# Altium footprint library Motion Controller.PcbLib: 208 footprints (part 10 of 13)
Each footprint in its own frame and in the unit in brackets; x right, y up, seen from the top. Pads: shape width x height; smd on the part's side, far side on the other; paste and mask are expansions set on the pad; w line width, h text height; cw(c..) or ccw(c..) is an arc to the next point about the centre after c.
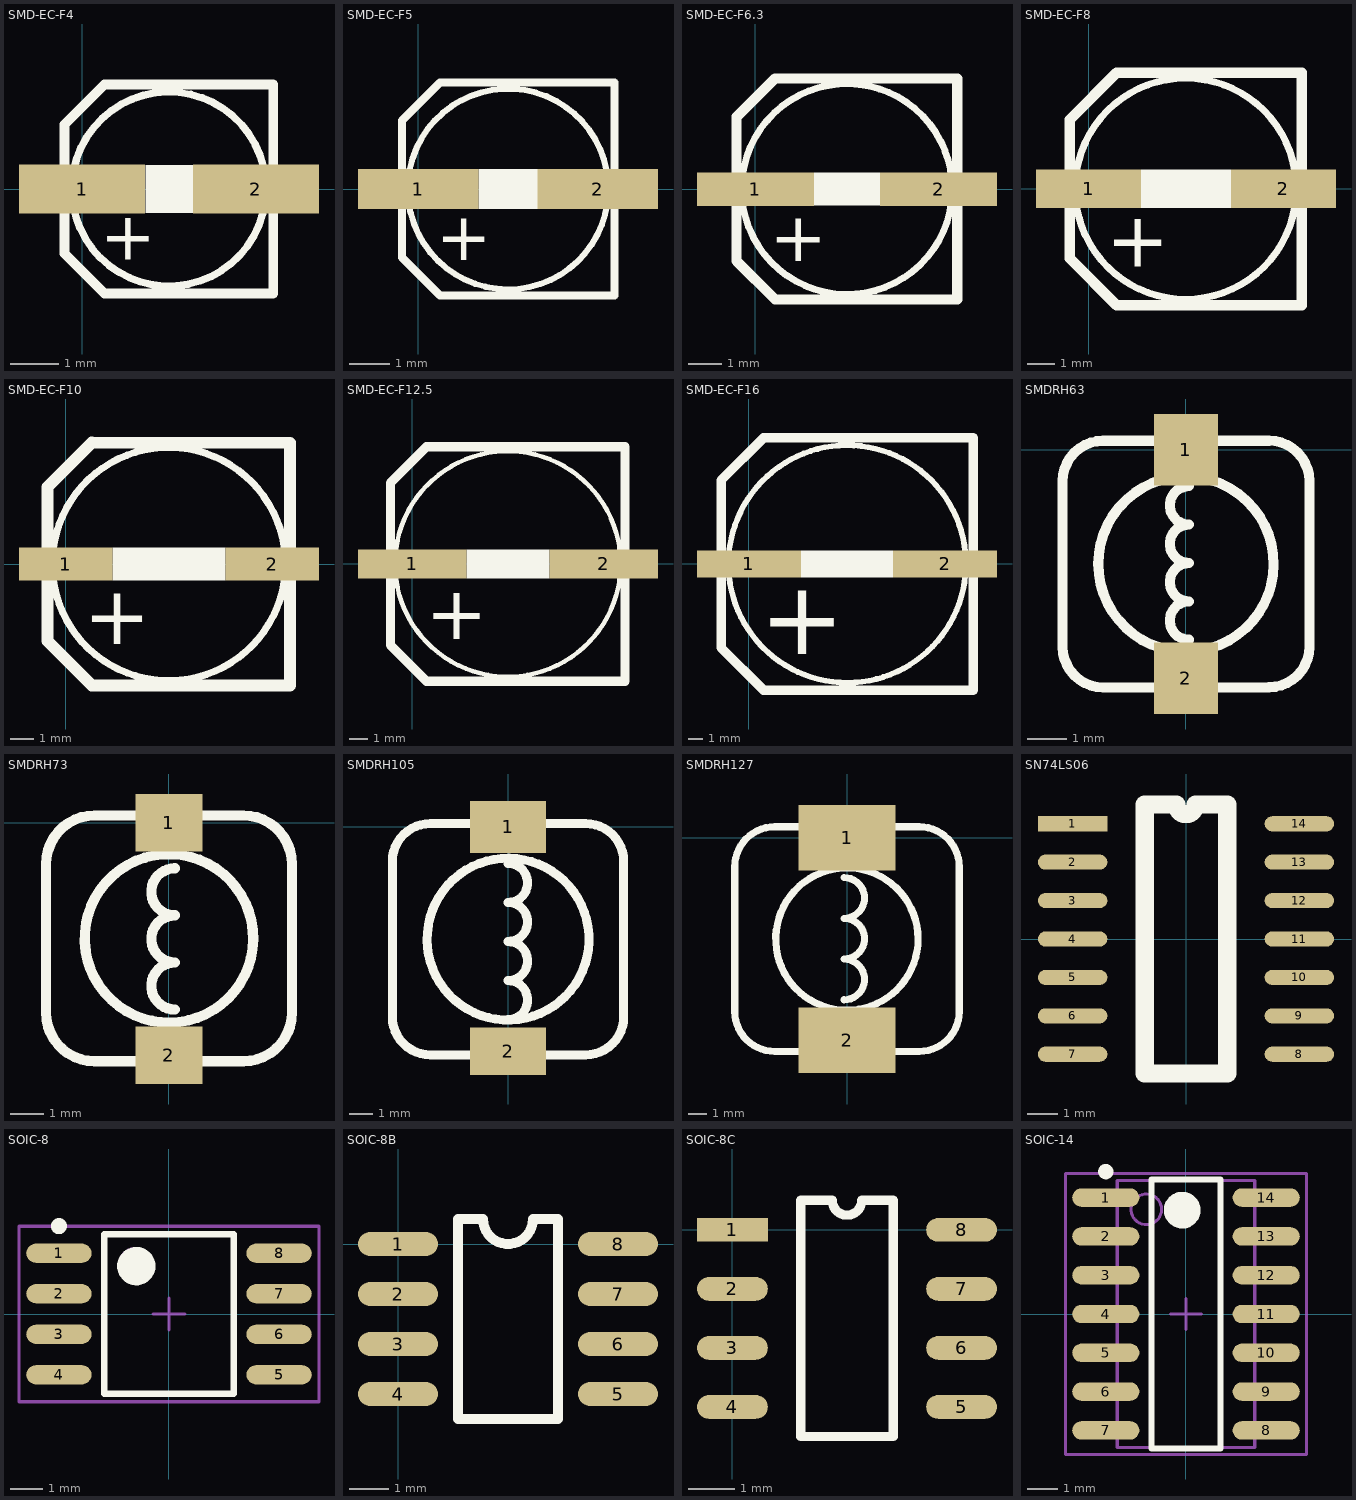
[diagram p9: the footprints below, top view; thin cyan lines are the x and y axes]

## SMD-EC-F4 [mm]
pads (2):
  rect 2.6x1 smd: 1(0,0) 2(3.579,0)
Top Overlay:
  rectangle: 1.302,-0.499 2.279,0.5
  lines w0.152: 3.561,0.924 ccw(c1.787,0) 3.562,0.921
  lines w0.203: 3.936,2.151 0.461,2.151 -0.364,1.325 -0.364,-1.324 0.461,-2.15 3.937,-2.15 3.937,2.15
  text "+" at 0.37,-1.46 h1

## SMD-EC-F5 [mm]
pads (2):
  rect 3x1 smd: 1(0,0) 2(4.477,0)
Top Overlay:
  rectangle: 1.5,-0.5 2.981,0.5
  lines w0.152: 4.412,1.239 ccw(c2.241,0) 4.415,1.235
  lines w0.203: 0.217,-2.33 -0.407,-1.706 ; 4.89,2.656 0.542,2.656 0.541,2.655 -0.407,1.707 -0.407,-1.706 ; 4.891,-2.654 0.542,-2.654 0.542,-2.654 -0.407,-1.706 ; 4.892,-2.654 4.892,2.654
  text "+" at 0.445,-1.777 h1.2

## SMD-EC-F6.3 [mm]
pads (2):
  rect 3.5x1 smd: 1(0,0) 2(5.475,0)
Top Overlay:
  rectangle: 1.746,-0.496 3.73,0.5
  lines w0.203: 5.667,1.156 ccw(c2.736,0.002) 5.667,1.154
  lines w0.305: 0.587,-3.303 -0.564,-2.152 -0.564,2.163 0.587,3.314 ; 0.589,-3.305 6.036,-3.305 6.036,3.309 0.592,3.309
  text "+" at 0.43,-2.164 h1.5

## SMD-EC-F8 [mm]
pads (2):
  rect 3.8x1.4 smd: 1(0,0) 2(7.051,0)
Top Overlay:
  rectangle: 1.89,-0.7 5.153,0.7
  lines w0.254: 7.515,0 ccw(c3.515,0) 7.515,0
  lines w0.381: -0.686,2.499 1.013,4.198 ; -0.686,2.499 -0.686,-2.52 1.013,-4.219 7.714,-4.219 7.714,4.198 1.013,4.198 ; -0.686,2.499 1.013,4.198
  text "+" at 0.64,-2.818 h2

## SMD-EC-F10 [mm]
pads (2):
  rect 4x1.4 smd: 1(0,0) 2(8.86,0)
Top Overlay:
  circle w0.305: c4.422,0 r5
  rectangle: 2.006,-0.701 6.849,0.707
  lines w0.508: 1.12,5.203 -0.778,3.306 -0.778,-3.304 1.12,-5.201 9.62,-5.201 9.62,5.2 1.123,5.2
  text "+" at 0.78,-3.44 h2.5

## SMD-EC-F12.5 [mm]
pads (2):
  rect 6x1.6 smd: 1(0,0) 2(10.625,0)
Top Overlay:
  circle w0.254: c5.303,0 r6.25
  rectangle: 3.019,-0.8 7.601,0.8
  lines w0.508: -1.202,-4.498 0.799,-6.499 11.797,-6.499 11.797,6.495 0.799,6.495 0.797,6.493 -1.202,4.494 -1.202,-4.498
  text "+" at 0.75,-4.168 h3

## SMD-EC-F16 [mm]
pads (2):
  rect 7x1.8 smd: 1(0,0) 2(13.215,0)
Top Overlay:
  rectangle: 3.503,-0.9 9.696,0.914
  lines w0.381: 14.301,2.24 ccw(c6.62,0.001) 14.315,2.19
  lines w0.635: 15.122,-8.499 15.123,-8.5 ; 15.122,8.496 15.123,8.497 ; 15.123,-8.5 15.123,8.497 ; 15.123,-8.5 0.981,-8.5 -1.877,-5.642 -1.877,5.638 0.981,8.497 15.123,8.497
  text "+" at 0.729,-6.087 h5

## SMDRH63 [mm]
pads (2):
  rect 1.6x1.8 smd: 1(0,0) 2(0,-5.74)
Top Overlay:
  lines w0.254: -1.688,-1.453 ccw(c0,-2.87) -1.668,-1.43 ; 0.076,-4.775 cw(c0.076,-4.293) 0.076,-3.81 cw(c0.076,-3.327) 0.076,-2.845 cw(c0.076,-2.362) 0.076,-1.88 cw(c0.076,-1.397) 0.076,-0.914 ; 2.083,-5.971 -2.083,-5.971 cw(c-2.083,-4.955) -3.099,-4.955 -3.099,-0.787 cw(c-2.083,-0.787) -2.083,0.229 2.083,0.229 ; 2.085,-5.969 ccw(c2.085,-4.953) 3.101,-4.953 3.101,-0.785 ccw(c2.085,-0.785) 2.085,0.231

## SMDRH73 [mm]
pads (2):
  rect 2x1.7 smd: 1(0,0) 2(0,-6.904)
Top Overlay:
  lines w0.305: 0.176,-5.544 cw(c0.176,-4.845) 0.176,-4.147 cw(c0.176,-3.448) 0.176,-2.75 cw(c0.176,-2.052) 0.176,-1.353 ; 2.271,-2.39 ccw(c-0.001,-3.434) 2.276,-2.402 ; -3.649,-5.635 ccw(c-2.201,-5.635) -2.201,-7.083 2.203,-7.083 ccw(c2.203,-5.635) 3.651,-5.635 3.651,-1.231 ccw(c2.203,-1.231) 2.203,0.217 -2.201,0.217 ccw(c-2.201,-1.231) -3.649,-1.231 -3.649,-5.635

## SMDRH105 [mm]
pads (2):
  rect 3.2x2.2 smd: 1(0,0)
  rect 3.2x2 smd: 2(0,-9.5)
Top Overlay:
  lines w0.381: 0,-8.162 ccw(c0,-7.335) 0,-6.509 ccw(c0,-5.682) 0,-4.856 ccw(c0,-4.03) 0,-3.203 ccw(c0,-2.377) 0,-1.55 ; 3.109,-3.313 ccw(c0,-4.758) 3.112,-3.321 ; -4.898,-8.043 ccw(c-3.288,-8.044) -3.289,-9.654 3.284,-9.654 ccw(c3.285,-8.044) 4.895,-8.045 4.895,-1.472 ccw(c3.285,-1.471) 3.286,0.139 -3.286,0.139 ccw(c-3.288,-1.471) -4.898,-1.47 -4.898,-8.043

## SMDRH127 [mm]
pads (2):
  rect 5.2x3.5 smd: 1(0,0) 2(0,-10.83)
Top Overlay:
  lines w0.381: -0.157,-8.664 ccw(c-0.157,-7.576) -0.157,-6.488 ccw(c-0.157,-5.399) -0.157,-4.311 ccw(c-0.157,-3.222) -0.157,-2.134 ; 3.255,-3.462 ccw(c-0.006,-5.419) 3.263,-3.474 ; -6,-9.283 ccw(c-3.866,-9.285) -3.866,-11.419 3.863,-11.419 ccw(c3.865,-9.285) 5.999,-9.285 5.999,-1.556 ccw(c3.865,-1.554) 3.864,0.58 -3.864,0.58 ccw(c-3.866,-1.554) -6,-1.555 -6,-9.283

## SN74LS06 [mm]
pads (14):
  rect 2.3x0.5 smd: 1(-3.75,3.81)
  oval 2.3x0.5 smd: 2(-3.75,2.54) 3(-3.75,1.27) 4(-3.75,0) 5(-3.75,-1.27) 6(-3.75,-2.54) 7(-3.75,-3.81) 8(3.75,-3.81) 9(3.75,-2.54) 10(3.75,-1.27) 11(3.75,0) 12(3.75,1.27) 13(3.75,2.54) 14(3.75,3.81)
Top Overlay:
  lines w0.6: -1.365,-4.445 -1.365,4.445 -0.318,4.445 ccw(c0,4.445) 0.318,4.445 1.365,4.445 1.365,-4.445 -1.365,-4.445

## SOIC-8 [mm]
height 1.75
pads (8):
  oval 2.05x0.6 smd: 1(-3.45,1.905) 2(-3.45,0.635) 3(-3.45,-0.635) 4(-3.45,-1.905) 5(3.45,-1.905) 6(3.45,-0.635) 7(3.45,0.635) 8(3.45,1.905)
Top Overlay:
  circle w0.6: c-1.025,1.5 r0.3
  circle w0.25: c-3.45,2.755 r0.125
  lines w0.2: -2.025,-2.5 2.025,-2.5 2.025,2.5 -2.025,2.5 -2.025,-2.5
Mechanical 13:
  circle w0.1: c-1.05,1.55 r0.5
  lines w0.1: -2,-2.5 2,-2.5 2,2.5 -2,2.5 -2,-2.5
Mechanical 15:
  lines w0.1: -0.5,0 0.5,0 ; 0,-0.5 0,0.5 ; -4.7,-2.75 4.7,-2.75 4.7,2.75 -4.7,2.75 -4.7,-2.75
3D body: height 1.75, standoff 0.2, extent -2,-2.5 2,2.5

## SOIC-8B [mil]
pads (8):
  oval 80x24 smd: 1(0,0) 2(0,-50) 3(0,-100) 4(0,-150) 5(220,-150) 6(220,-100) 7(220,-50) 8(220,0)
Top Overlay:
  lines w10: 60,-175 60,25 85,25 ccw(c110,25) 135,25 160,25 160,-175 60,-175

## SOIC-8C [mm]
pads (8):
  rect 1.524x0.51 smd: 1(0,0)
  oval 1.524x0.51 smd: 2(0,-1.27) 3(0,-2.54) 4(0,-3.81) 5(4.93,-3.81) 6(4.93,-2.54) 7(4.93,-1.27) 8(4.93,0)
Top Overlay:
  lines w0.2: 1.47,-4.445 1.47,0.635 2.147,0.635 ccw(c2.465,0.635) 2.782,0.635 3.46,0.635 3.46,-4.445 1.47,-4.445

## SOIC-14 [mm]
pads (14):
  oval 2.2x0.6 smd: 1(-2.625,3.81) 2(-2.625,2.54) 3(-2.625,1.27) 4(-2.625,0) 5(-2.625,-1.27) 6(-2.625,-2.54) 7(-2.625,-3.81) 8(2.625,-3.81) 9(2.625,-2.54) 10(2.625,-1.27) 11(2.625,0) 12(2.625,1.27) 13(2.625,2.54) 14(2.625,3.81)
Top Overlay:
  circle w0.25: c-2.625,4.66 r0.125
  circle w0.6: c-0.125,3.4 r0.3
  lines w0.2: -1.125,-4.4 -1.125,4.4 1.125,4.4 1.125,-4.4 -1.125,-4.4
Mechanical 13:
  circle w0.1: c-1.3,3.425 r0.5
  lines w0.1: -2.25,-4.375 -2.25,4.375 2.25,4.375 2.25,-4.375 -2.25,-4.375
Mechanical 15:
  lines w0.1: -0.5,0 0.5,0 ; 0,-0.5 0,0.5 ; -3.95,-4.6 -3.95,4.6 3.95,4.6 3.95,-4.6 -3.95,-4.6
3D body: height 1.75, standoff 0.1, extent -2.25,-4.375 2.25,4.375